# Altium schematic symbol library SPMWHD32AMH0XAR0PR.SchLib: 1 symbol
Pins are listed as number, name and electrical type; pins without a type are passive.

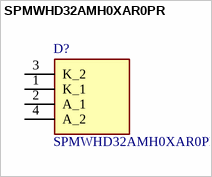
[diagram p0: symbol SPMWHD32AMH0XAR0PR]

## SPMWHD32AMH0XAR0PR
designator D?
High Power LED; Manufacturer_Name: SAMSUNG; Geometry.Height: 0.8mm; Manufacturer_Part_Number: SPMWHD32AMH0XAR0PR; Mouser Part Number: *; Mouser Price/Stock: *; Arrow Part Number: SPMWHD32AMH0XAR0PR; Arrow Price/Stock: https://www.arrow.com/en/products/spmwhd32amh0xar0pr/samsung-electronics?region=nac; Datasheet Link: https://download.led.samsung.com/led/file/resource/2022/05/Data_Sheet_LM301H_EVO_Rev.2.1.pdf
footprint SPMWHD32AMH0XAR0PR
pins: 1 K_1, 2 A_1, 3 K_2, 4 A_2